# Altium integrated library 10uf_35v Electrolytic cap.IntLib: 1 symbol
Pins are listed as number, name and electrical type; pins without a type are passive.

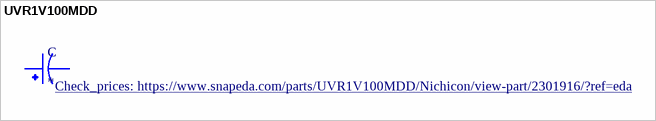
[diagram p0: symbol UVR1V100MDD]

## UVR1V100MDD
designator C
10ÂµF 35V Aluminum Electrolytic Capacitors Radial, Can 2000 Hrs @ 85Â°C; MF: Nichicon; MP: UVR1V100MDD; Availability: Good; SnapEDA_Link: https://www.snapeda.com/parts/UVR1V100MDD/Nichicon/view-part/2301916/?ref=snap; Mouser-Purchase-URL: https://snapeda.com/shop?store=Mouser&id=2301916; Price: None; Package: Radial Nichicon; DigiKey-Purchase-URL: https://snapeda.com/shop?store=DigiKey&id=2301916; Value: *; Check_prices: https://www.snapeda.com/parts/UVR1V100MDD/Nichicon/view-part/2301916/?ref=eda
footprint CAPPRD200W50D550H1250
pins: 1, 2